# EAGLE library part ATMEGA2560-16AU (library ATMEGA2560-16AU (1))
Check prices <https://pricing.snapeda.com/parts/ATMEGA2560-16AU/Microchip%20Technology/view-part?ref=eda>
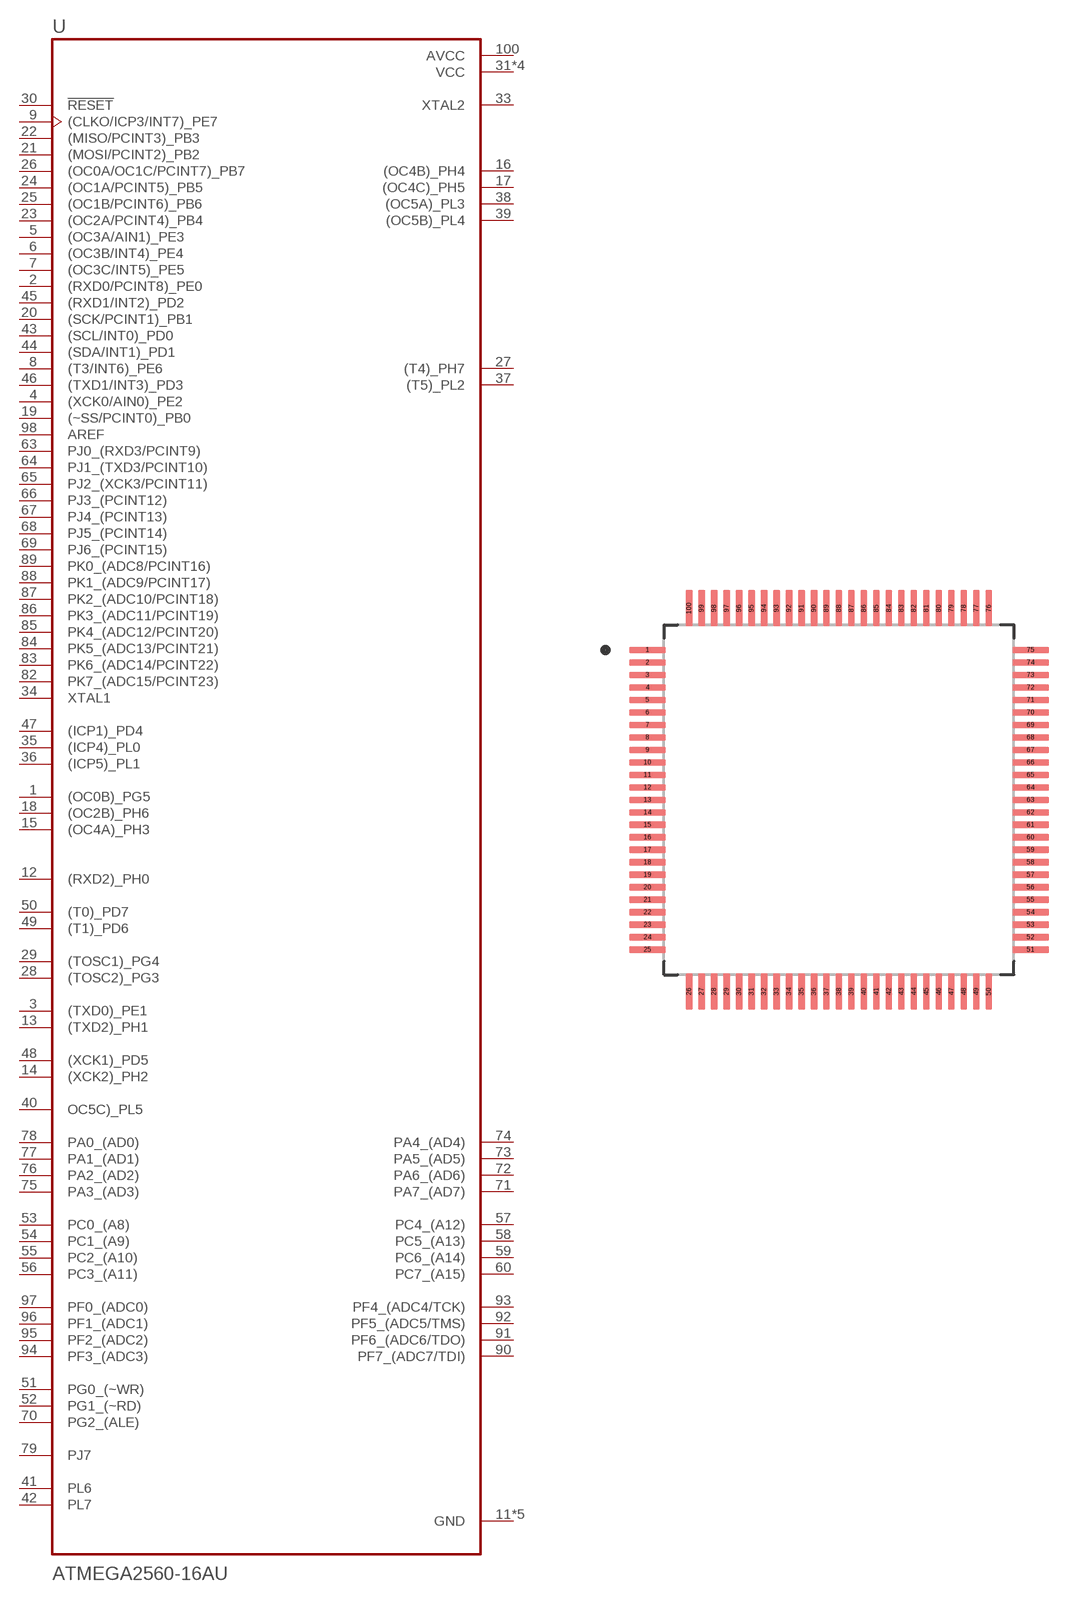
[diagram p0: symbol with the pads of QFP50P1600X1600X120-100N; footprint QFP50P1600X1600X120-100N]

Designator prefix U

## ATMEGA2560-16AU (Availability: In Stock; Description: AVR AVR® ATmega Microcontroller IC 8-Bit 16MHz 256KB (128K x 16) FLASH 100-TQFP (14x14); MF: Microchip Technology; MP: ATMEGA2560-16AU; Package: None; Price: None; Purchase-URL: https://pricing.snapeda.com/search/part/ATMEGA2560-16AU/?ref=eda)  [QFP50P1600X1600X120-100N]
1  (OC0B)_PG5
2  (RXD0/PCINT8)_PE0  in
3  (TXD0)_PE1
4  (XCK0/AIN0)_PE2  in
5  (OC3A/AIN1)_PE3  in
6  (OC3B/INT4)_PE4  in
7  (OC3C/INT5)_PE5  in
8  (T3/INT6)_PE6  in
9  (CLKO/ICP3/INT7)_PE7  in
10  VCC  pwr
11  GND  pwr
12  (RXD2)_PH0
13  (TXD2)_PH1
14  (XCK2)_PH2
15  (OC4A)_PH3
16  (OC4B)_PH4
17  (OC4C)_PH5
18  (OC2B)_PH6
19  (~SS/PCINT0)_PB0  in
20  (SCK/PCINT1)_PB1  in
21  (MOSI/PCINT2)_PB2  in
22  (MISO/PCINT3)_PB3  in
23  (OC2A/PCINT4)_PB4  in
24  (OC1A/PCINT5)_PB5  in
25  (OC1B/PCINT6)_PB6  in
26  (OC0A/OC1C/PCINT7)_PB7  in
27  (T4)_PH7
28  (TOSC2)_PG3
29  (TOSC1)_PG4
30  !RESET  in
31  VCC  pwr
32  GND  pwr
33  XTAL2  out
34  XTAL1  in
35  (ICP4)_PL0
36  (ICP5)_PL1
37  (T5)_PL2
38  (OC5A)_PL3
39  (OC5B)_PL4
40  OC5C)_PL5
41  PL6
42  PL7
43  (SCL/INT0)_PD0  in
44  (SDA/INT1)_PD1  in
45  (RXD1/INT2)_PD2  in
46  (TXD1/INT3)_PD3  in
47  (ICP1)_PD4
48  (XCK1)_PD5
49  (T1)_PD6
50  (T0)_PD7
51  PG0_(~WR)
52  PG1_(~RD)
53  PC0_(A8)
54  PC1_(A9)
55  PC2_(A10)
56  PC3_(A11)
57  PC4_(A12)
58  PC5_(A13)
59  PC6_(A14)
60  PC7_(A15)
61  VCC  pwr
62  GND  pwr
63  PJ0_(RXD3/PCINT9)  in
64  PJ1_(TXD3/PCINT10)  in
65  PJ2_(XCK3/PCINT11)  in
66  PJ3_(PCINT12)  in
67  PJ4_(PCINT13)  in
68  PJ5_(PCINT14)  in
69  PJ6_(PCINT15)  in
70  PG2_(ALE)
71  PA7_(AD7)
72  PA6_(AD6)
73  PA5_(AD5)
74  PA4_(AD4)
75  PA3_(AD3)
76  PA2_(AD2)
77  PA1_(AD1)
78  PA0_(AD0)
79  PJ7
80  VCC  pwr
81  GND  pwr
82  PK7_(ADC15/PCINT23)  in
83  PK6_(ADC14/PCINT22)  in
84  PK5_(ADC13/PCINT21)  in
85  PK4_(ADC12/PCINT20)  in
86  PK3_(ADC11/PCINT19)  in
87  PK2_(ADC10/PCINT18)  in
88  PK1_(ADC9/PCINT17)  in
89  PK0_(ADC8/PCINT16)  in
90  PF7_(ADC7/TDI)
91  PF6_(ADC6/TDO)
92  PF5_(ADC5/TMS)
93  PF4_(ADC4/TCK)
94  PF3_(ADC3)
95  PF2_(ADC2)
96  PF1_(ADC1)
97  PF0_(ADC0)
98  AREF  in
99  GND  pwr
100  AVCC  pwr

## Footprint QFP50P1600X1600X120-100N (pad centres in mm)
smd 1.47 x 0.28: 1 -7.67,6; 2 -7.67,5.5; 3 -7.67,5; 4 -7.67,4.5; 5 -7.67,4; 6 -7.67,3.5; 7 -7.67,3; 8 -7.67,2.5; 9 -7.67,2; 10 -7.67,1.5; 11 -7.67,1; 12 -7.67,0.5; 13 -7.67,0; 14 -7.67,-0.5; 15 -7.67,-1; 16 -7.67,-1.5; 17 -7.67,-2; 18 -7.67,-2.5; 19 -7.67,-3; 20 -7.67,-3.5; 21 -7.67,-4; 22 -7.67,-4.5; 23 -7.67,-5; 24 -7.67,-5.5; 25 -7.67,-6; 51 7.67,-6; 52 7.67,-5.5; 53 7.67,-5; 54 7.67,-4.5; 55 7.67,-4; 56 7.67,-3.5; 57 7.67,-3; 58 7.67,-2.5; 59 7.67,-2; 60 7.67,-1.5; 61 7.67,-1; 62 7.67,-0.5; 63 7.67,0; 64 7.67,0.5; 65 7.67,1; 66 7.67,1.5; 67 7.67,2; 68 7.67,2.5; 69 7.67,3; 70 7.67,3.5; 71 7.67,4; 72 7.67,4.5; 73 7.67,5; 74 7.67,5.5; 75 7.67,6
smd 0.28 x 1.47: 26 -6,-7.67; 27 -5.5,-7.67; 28 -5,-7.67; 29 -4.5,-7.67; 30 -4,-7.67; 31 -3.5,-7.67; 32 -3,-7.67; 33 -2.5,-7.67; 34 -2,-7.67; 35 -1.5,-7.67; 36 -1,-7.67; 37 -0.5,-7.67; 38 0,-7.67; 39 0.5,-7.67; 40 1,-7.67; 41 1.5,-7.67; 42 2,-7.67; 43 2.5,-7.67; 44 3,-7.67; 45 3.5,-7.67; 46 4,-7.67; 47 4.5,-7.67; 48 5,-7.67; 49 5.5,-7.67; 50 6,-7.67; 76 6,7.67; 77 5.5,7.67; 78 5,7.67; 79 4.5,7.67; 80 4,7.67; 81 3.5,7.67; 82 3,7.67; 83 2.5,7.67; 84 2,7.67; 85 1.5,7.67; 86 1,7.67; 87 0.5,7.67; 88 0,7.67; 89 -0.5,7.67; 90 -1,7.67; 91 -1.5,7.67; 92 -2,7.67; 93 -2.5,7.67; 94 -3,7.67; 95 -3.5,7.67; 96 -4,7.67; 97 -4.5,7.67; 98 -5,7.67; 99 -5.5,7.67; 100 -6,7.67